# Altium schematic symbol library MAX31865AAP+.SchLib: 1 symbol
Pins are listed as number, name and electrical type; pins without a type are passive.

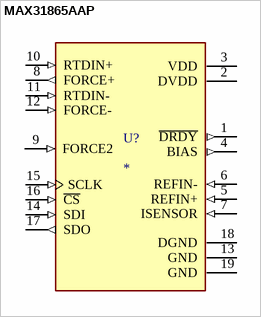
[diagram p0: symbol MAX31865AAP]

## MAX31865AAP
designator U?
Rtd To Digital Converter In Ssop Tr; MP: MAX31865AAP; MF: {'manufacturer': u'Maxim Integrated'}; Availability: Unavailable; Package: None; Value: *; Price: None
footprint SOP65P777X199-20N
pins: 1 ~{DRDY} (out), 2 DVDD (power), 3 VDD (power), 4 BIAS (out), 5 REFIN+ (in), 6 REFIN- (in), 7 ISENSOR (in), 8 FORCE+ (out), 9 FORCE2 (in), 10 RTDIN+ (in), 11 RTDIN- (in), 12 FORCE- (in), 13 GND (power), 14 SDI (in), 15 SCLK (in), 16 ~{CS} (in), 17 SDO (out), 18 DGND (power), 19 GND (power)